# Altium integrated library Sampler_DIOT.IntLib: 102 symbols (part 1 of 2)
Pins are listed as number, name and electrical type; pins without a type are passive.

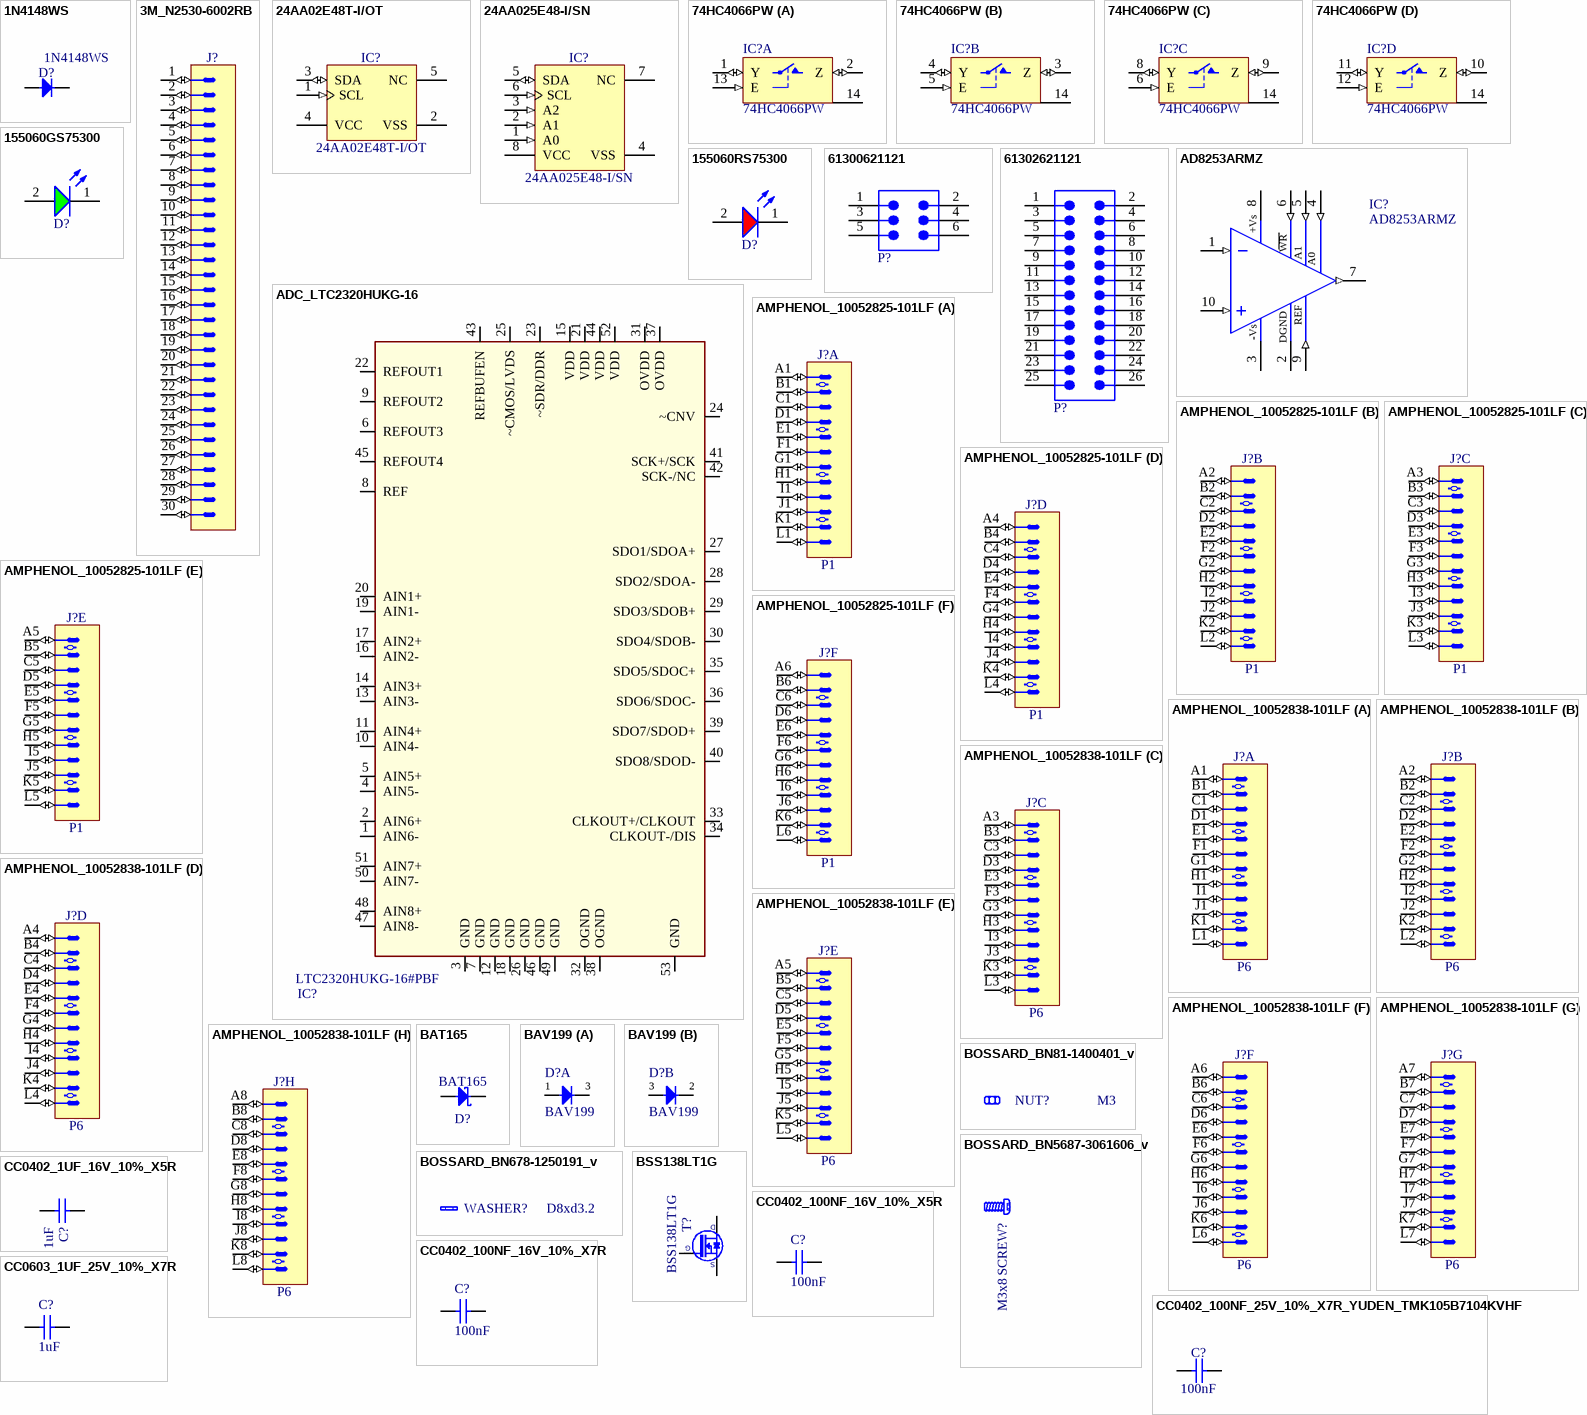
[diagram p0: symbols 1N4148WS to CC0603_1UF_25V_10%_X7R]

## 1N4148WS
designator D?
Diode; Part Description: Small Signal Diodes; Manufacturer: FAIRCHILD SEMICONDUCTOR; Voltage: 75V; Power: 150mA; PressFit: No; Bonding: No; Part Number: 1N4148WS; Component Kind: Standard; Component Type: Standard; Device: 1N4148WS; Footprint: SODFL2512X100N; PackageDescription: SODFL Diode; 1.70mm W X 1.25mm L X 1.00mm H body, IPC Medium Density; Manufacturer Part Number: 1N4148WS; Pin Count: 2; Case: SOD-323F; Mounted: Yes; Socket: No; SMD: Yes; Sense: No; ComponentHeight: 1mm; HelpURL: \\cern.ch\dfs\Applications\Altium\Datasheets\1N4148WS.pdf; Author: CERN DEM JLC; CreateDate: 12.05.2011; LatestRevisionDate: 12.05.2011
footprint SODFL2512X100N
pins: 1 C, 2 A

## 3M_N2530-6002RB
designator J?
Connector 30 Male; Part Number: 3M_N2530-6002RB; Part Description: 30 Contacts - Straight .100'' x .100'' Low Profile Four-Wall Header, 2500 Series; Manufacturer: 3M; Manufacturer Part Number: N2530-6002RB; PressFit: No; Component Kind: Standard; Component Type: Standard; Footprint: 3M_N2530-6002RB; Pin Count: 30; Family: Header 30; Mounted: Yes; Socket: No; SMD: No; Sense: No; Status: None; ComponentHeight: 10.03mm; HelpURL: \\cern.ch\dfs\Applications\Altium\Datasheets\3M_N2530-6002RB.pdf; Author: CERN DEM JLC; CreateDate: 11.02.2009; LatestRevisionDate: 11.08.2009
footprint 3M_N2530-6002RB
pins: 1 (io), 2 (io), 3 (io), 4 (io), 5 (io), 6 (io), 7 (io), 8 (io), 9 (io), 10 (io), 11 (io), 12 (io), 13 (io), 14 (io), 15 (io), 16 (io), 17 (io), 18 (io), 19 (io), 20 (io), 21 (io), 22 (io), 23 (io), 24 (io), 25 (io), 26 (io), 27 (io), 28 (io), 29 (io), 30 (io)
1 alternate drawing of the same symbol

## 24AA02E48T-I/OT
designator IC?
1.7V-5.5V, 2K I2C Serial EEPROM With EUI-48 Node Identity; Manufacturer: MICROCHIP TECHNOLOGY; PressFit: No; Bonding: No; Part Number: 24AA02E48T-I/OT; Component Kind: Standard; Component Type: Standard; Device: 24AA02E48T-I/OT; Footprint: SOT95P280X145-5N; PackageDescription: SOT, 0.95mm pitch; 5 pin, 1.60mm W X 2.90mm L X 1.45mm H body, IPC Medium Density; Part Description: 1.7V-5.5V, 2K I2C Serial EEPROM with EUI-48 Node Identity; Manufacturer Part Number: 24AA02E48T-I/OT; Pin Count: 5; Case: SOT23-5; Mounted: Yes; Socket: No; SMD: Yes; Sense: No; ComponentHeight: 1.45mm; HelpURL: \\cern.ch\dfs\Applications\Altium\Datasheets\24AA02E48T-I-OT.pdf; Author: CERN DEM MR; CreateDate: 31.03.2016; LatestRevisionDate: 31.03.2016
footprint SOT95P280X145-5N
pins: 1 SCL (in), 2 VSS (power), 3 SDA (io), 4 VCC (power), 5 NC

## 24AA025E48-I/SN
designator IC?
1.7V-5.5V, 2K I2C™ Serial EEPROMs with EUI-48™ Node Identity; Manufacturer: MICROCHIP TECHNOLOGY; PressFit: No; Bonding: No; Part Number: 24AA025E48-I/SN; Component Kind: Standard; Component Type: Standard; Device: 24AA025E48-I/SN; Footprint: SOIC127P600X175-8N; PackageDescription: SOIC 8, Pitch 1.27mm - Body 4x5mm, IPC Medium Density; Part Description: 1.7V-5.5V, 2K I2C™ Serial EEPROMs with EUI-48™ Node Identity; Manufacturer Part Number: 24AA025E48-I/SN; Pin Count: 8; Case: SOIC8; Mounted: Yes; Socket: No; SMD: Yes; Sense: No; ComponentHeight: 1.75mm; HelpURL: \\cern.ch\dfs\Applications\Altium\Datasheets\24AA025E48-I-SN.pdf; Author: CERN DEM MR; CreateDate: 19.07.2016; LatestRevisionDate: 19.07.2016
footprint SOIC127P600X175-8N
pins: 1 A0 (in), 2 A1 (in), 3 A2 (in), 4 VSS (power), 5 SDA (io), 6 SCL (in), 7 NC, 8 VCC (power)

## 74HC4066PW
designator IC?
Part Description: Quad Single-Pole Single-Throw Analog Switch; Manufacturer: NXP SEMICONDUCTORS; PressFit: No; Bonding: No; Table: Standard Logic; Part Number: 74HC4066PW; Component Kind: Standard; Component Type: Standard; Device: 74HC4066PW; Footprint: SOP65P640X110-14N; PackageDescription: SOP, 14-Leads, Body 4.4x5mm (max), Pitch 0.65mm, IPC Medium Density; Manufacturer Part Number: 74HC4066PW; Pin Count: 14; Case: TSSOP14; Mounted: Yes; Socket: No; SMD: Yes; ComponentHeight: 1.1mm; Author: CERN DEM JLC; HelpURL: \\cern.ch\dfs\Applications\Altium\Datasheets\74HC4066PW.pdf; CreateDate: 2014-11-19; LatestRevisionDate: 2014-11-19
footprint SOP65P640X110-14N
simulation model pk14 (Model Description)
pins on every part: 7 GND (power) hidden to GND, 14 VCC (power)
part A pins: 1 Y (io), 2 Z (io), 13 E (in)
part B pins: 3 Z (io), 4 Y (io), 5 E (in)
part C pins: 6 E (in), 8 Y (io), 9 Z (io)
part D pins: 10 Z (io), 11 Y (io), 12 E (in)

## 155060GS75300
designator D?, comment Green, 3.2V, 140°  (value not drawn)
WL-SMSW Mono-color Side View Waterclear, size 0603, Green, 3.2V, 140°; Manufacturer Part Number: 155060GS75300; Manufacturer: Wurth Elektronik; Case/Size Code: 0603; Chip Technology: InGaN; Dominant Wavelength: 525nm; Luminous Intensity: 560mcd; Peak Wavelength: 515nm; Category: Signal LEDs; Match Code: WL-SMSW; ComponentLink1Description: Website Link; ComponentLink1URL: https://www.we-online.com/redexpert/article/155060GS75300?ad; ComponentLink2Description: Datasheet Link; ComponentLink2URL: https://www.we-online.com/redexpert/spec/155060GS75300?ad; Mount: Surface Mount; Operating Temperature Max: 85°C; Operating Temperature Min: -40°C; Packaging: Tape and Reel; Length: 1.6mm; Width: 0.98mm; Height: 0.8mm; Emitting Color: Green; Forward Voltage: 3.2V; Viewing Angle: 140°
footprint WL-SMSW_0603_L1.6W0.98H0.8
simulation model 0603_155060GS75300
pins: 1 K, 2 A

## 155060RS75300
designator D?, comment Red, 2V, 140°  (value not drawn)
WL-SMSW Mono-color Side View Waterclear, size 0603, Red, 2V, 140°; Manufacturer Part Number: 155060RS75300; Manufacturer: Wurth Elektronik; Case/Size Code: 0603; Chip Technology: AlInGaP; Dominant Wavelength: 625nm; Luminous Intensity: 150mcd; Peak Wavelength: 630nm; Category: Signal LEDs; Match Code: WL-SMSW; ComponentLink1Description: Website Link; ComponentLink1URL: https://www.we-online.com/redexpert/article/155060RS75300?ad; ComponentLink2Description: Datasheet Link; ComponentLink2URL: https://www.we-online.com/redexpert/spec/155060RS75300?ad; Mount: Surface Mount; Operating Temperature Max: 85°C; Operating Temperature Min: -40°C; Packaging: Tape and Reel; Length: 1.6mm; Width: 0.98mm; Height: 0.8mm; Emitting Color: Red; Forward Voltage: 2V; Viewing Angle: 140°
footprint WL-SMSW_0603_L1.6W0.98H0.8
simulation model 0603_155060RS75300
pins: 1 K, 2 A

## 61300621121
designator P?  (value not drawn)
WR-PHD Pin Header, THT, Vertical, pitch 2.54mm, 2 Row, 6P; Manufacturer: Wurth Elektronik; Contact Resistance: 20mOhm; Rated Current: 3A; Working Voltage: 250V; Withstanding Voltage: 500V; Manufacturer Part Number: 61300621121; Category: Board-to-Board Connectors; Match Code: WR-PHD; ComponentLink1Description: Website Link; ComponentLink1URL: https://www.we-online.com/redexpert/article/61300621121?ad; ComponentLink2Description: Datasheet Link; ComponentLink2URL: https://www.we-online.com/redexpert/spec/61300621121?ad; Mount: Through Hole; Operating Temperature Max: 105°C; Operating Temperature Min: -40°C; Packaging: Bag; Gender: Pin Header; Number of Pins: 6; Number of Rows: 2; Orientation: Vertical; Pitch: 2.54mm
footprint 61300621121
pins: 1, 2, 3, 4, 5, 6

## 61302621121
designator P?  (value not drawn)
WR-PHD Pin Header, THT, Vertical, pitch 2.54mm, 2 Row, 26P; Manufacturer: Wurth Elektronik; Contact Resistance: 20mOhm; Rated Current: 3A; Working Voltage: 250V; Withstanding Voltage: 500V; Manufacturer Part Number: 61302621121; Category: Board-to-Board Connectors; Match Code: WR-PHD; ComponentLink1Description: Website Link; ComponentLink1URL: https://www.we-online.com/redexpert/article/61302621121?ad; ComponentLink2Description: Datasheet Link; ComponentLink2URL: https://www.we-online.com/redexpert/spec/61302621121?ad; Mount: Through Hole; Operating Temperature Max: 105°C; Operating Temperature Min: -40°C; Packaging: Bag; Gender: Pin Header; Number of Pins: 26; Number of Rows: 2; Orientation: Vertical; Pitch: 2.54mm
footprint 61302621121
pins: 1, 2, 3, 4, 5, 6, 7, 8, 9, 10, 11, 12, 13, 14, 15, 16, 17, 18, 19, 20, 21, 22, 23, 24, 25, 26

## AD8253ARMZ
designator IC?
10MHz, 20V/us, G= 1, 10, 100, 1000 iCMOS Programmable Gain Instrumentation Amplifier; Manufacturer: ANALOG DEVICES; PressFit: No; Bonding: No; Part Number: AD8253ARMZ; Component Kind: Standard; Component Type: Standard; Device: AD8253ARMZ; Footprint: SOP50P490X110-10N; PackageDescription: MSOP, 10-Leads, Body 3.1x3.1mm (max), Pitch 0.50mm, IPC Medium Density; Part Description: 10MHz, 20V/us, G= 1, 10, 100, 1000 iCMOS Programmable Gain Instrumentation Amplifier; Manufacturer Part Number: AD8253ARMZ; Pin Count: 8; Case: MSOP10; Mounted: Yes; Socket: No; SMD: Yes; Sense: No; ComponentHeight: 1.1mm; Author: CERN DEM JLC; HelpURL: \\cern.ch\dfs\Applications\Altium\Datasheets\AD8253ARMZ.pdf; CreateDate: 2013-10-02; LatestRevisionDate: 2013-10-02
footprint SOP50P490X110-10N
pins: 1 -IN (in), 2 DGND (power), 3 -VS (power), 4 A0 (in), 5 A1 (in), 6 ~{WR} (in), 7 OUT (out), 8 +VS (power), 9 REF (in), 10 +IN (in)
text: +Vs; WR; -Vs

## ADC_LTC2320HUKG-16
designator IC?, comment LTC2320HUKG-16#PBF
Octal, 16-Bit, 1.5Msps/Ch  Simultaneous Sampling ADC; Manufacturer: LINEAR TECHNOLOGY; PressFit: No; Bonding: No; Part Number: LTC2320HUKG-16#PBF; Component Kind: Standard; Component Type: Standard; Device: LTC2320HUKG-16#PBF; Footprint: QFN50P700X800X80_HS-53M; PackageDescription: QFN, 52-Leads, Body 7.00x8.00mm, Pitch 0.50mm, Thermal Pad 5.41x6.40mm, IPC Low Density; Part Description: Octal, 16-Bit, 1.5Msps/Ch  Simultaneous Sampling ADC; Manufacturer Part Number: LTC2320HUKG-16#PBF; Pin Count: 48; Case: QFP48; Mounted: Yes; Socket: No; SMD: Yes; Sense: No; ComponentHeight: 0.8; Author: GK; HelpURL: \\cern.ch\dfs\Applications\Altium\Datasheets\LTC2335CLX-18#PBF.pdf; CreateDate: 10.01.2017; LatestRevisionDate: 10.01.2017
footprint QFN50P700X800X80_HS-53M (QFN, 52-Leads, Body 7.00x8.00mm, Pitch 0.50mm, Thermal Pad 5.41x6.40mm, IPC Low Density)
pins: 1 AIN6-, 2 AIN6+, 3 GND, 4 AIN5-, 5 AIN5+, 6 REFOUT3, 7 GND, 8 REF, 9 REFOUT2, 10 AIN4-, 11 AIN4+, 12 GND, 13 AIN3-, 14 AIN3+, 15 VDD, 16 AIN2-, 17 AIN2+, 18 GND, 19 AIN1-, 20 AIN1+, 21 VDD, 22 REFOUT1, 23 ~SDR/DDR, 24 ~CNV, 25 ~CMOS/LVDS, 26 GND, 27 SDO1/SDOA+, 28 SDO2/SDOA-, 29 SDO3/SDOB+, 30 SDO4/SDOB-, 31 OVDD, 32 OGND, 33 CLKOUT+/CLKOUT, 34 CLKOUT-/DIS, 35 SDO5/SDOC+, 36 SDO6/SDOC-, 37 OVDD, 38 OGND, 39 SDO7/SDOD+, 40 SDO8/SDOD-, 41 SCK+/SCK, 42 SCK-/NC, 43 REFBUFEN, 44 VDD, 45 REFOUT4, 46 GND, 47 AIN8-, 48 AIN8+, 49 GND, 50 AIN7-, 51 AIN7+, 52 VDD, 53 GND
2 alternate drawings of the same symbol

## AMPHENOL_10052825-101LF
designator J?, comment P1
72 Contacts Header, 6 Columns, 4 Pairs per Column; Part Number: AMPHENOL_10052825-101LF; Part Description: 72 Contacts, 2mm Pitch, 6 Columns, 4 Pairs per Column, 4 Walls, Right Angle Header; Manufacturer: AMPHENOL; Manufacturer Part Number: 10052825-101LF; Component Kind: Standard; Component Type: Standard; Footprint: AMPHENOL_10052825-101LF; Pin Count: 72; Family: AirMax VS; Mounted: Yes; Socket: No; SMD: No; PressFit: Yes; Sense: No; Status: None; ComponentHeight: 15.35mm; HelpURL: \\cern.ch\dfs\Applications\Altium\Datasheets\AMPHENOL_10052825-101LF.pdf; ComponentLink1URL: \\cern.ch\dfs\Applications\Altium\Datasheets\AMPHENOL_10052825-101LF_Application.pdf; ComponentLink1Description: Application; Author: CERN DEM MR; CreateDate: 19/02/2018; LatestRevisionDate: 19/02/2018; Classname: Overlapping
footprint AMPHENOL_10052825-101LF
part A pins: A1 (io), B1 (io), C1 (io), D1 (io), E1 (io), F1 (io), G1 (io), H1 (io), I1 (io), J1 (io), K1 (io), L1 (io)
part B pins: A2 (io), B2 (io), C2 (io), D2 (io), E2 (io), F2 (io), G2 (io), H2 (io), I2 (io), J2 (io), K2 (io), L2 (io)
part C pins: A3 (io), B3 (io), C3 (io), D3 (io), E3 (io), F3 (io), G3 (io), H3 (io), I3 (io), J3 (io), K3 (io), L3 (io)
part D pins: A4 (io), B4 (io), C4 (io), D4 (io), E4 (io), F4 (io), G4 (io), H4 (io), I4 (io), J4 (io), K4 (io), L4 (io)
part E pins: A5 (io), B5 (io), C5 (io), D5 (io), E5 (io), F5 (io), G5 (io), H5 (io), I5 (io), J5 (io), K5 (io), L5 (io)
part F pins: A6 (io), B6 (io), C6 (io), D6 (io), E6 (io), F6 (io), G6 (io), H6 (io), I6 (io), J6 (io), K6 (io), L6 (io)
1 alternate drawing of the same symbol

## AMPHENOL_10052838-101LF
designator J?, comment P6
96 Contacts Header, 8 Columns, 4 Pairs per Column; Part Number: AMPHENOL_10052838-101LF; Part Description: 96 Contacts, 2mm Pitch, 8 Columns, 4 Pairs per Column, 4 Walls, Right Angle Header; Manufacturer: AMPHENOL; Manufacturer Part Number: 10052838-101LF; Component Kind: Standard; Component Type: Standard; Footprint: AMPHENOL_10052838-101LF; Pin Count: 96; Family: AirMax VS; Mounted: Yes; Socket: No; SMD: No; PressFit: Yes; Sense: No; Status: None; ComponentHeight: 15.35mm; HelpURL: \\cern.ch\dfs\Applications\Altium\Datasheets\AMPHENOL_10052838-101LF.pdf; ComponentLink1URL: \\cern.ch\dfs\Applications\Altium\Datasheets\AMPHENOL_10052838-101LF_Application.pdf; ComponentLink1Description: Application; Author: CERN DEM MR; CreateDate: 19.02.2018; LatestRevisionDate: 19.02.2018
footprint AMPHENOL_10052838-101LF
simulation model Model Name (Model Description)
simulation model Model Name (Model Description)
part A pins: A1 (io), B1 (io), C1 (io), D1 (io), E1 (io), F1 (io), G1 (io), H1 (io), I1 (io), J1 (io), K1 (io), L1 (io)
part B pins: A2 (io), B2 (io), C2 (io), D2 (io), E2 (io), F2 (io), G2 (io), H2 (io), I2 (io), J2 (io), K2 (io), L2 (io)
part C pins: A3 (io), B3 (io), C3 (io), D3 (io), E3 (io), F3 (io), G3 (io), H3 (io), I3 (io), J3 (io), K3 (io), L3 (io)
part D pins: A4 (io), B4 (io), C4 (io), D4 (io), E4 (io), F4 (io), G4 (io), H4 (io), I4 (io), J4 (io), K4 (io), L4 (io)
part E pins: A5 (io), B5 (io), C5 (io), D5 (io), E5 (io), F5 (io), G5 (io), H5 (io), I5 (io), J5 (io), K5 (io), L5 (io)
part F pins: A6 (io), B6 (io), C6 (io), D6 (io), E6 (io), F6 (io), G6 (io), H6 (io), I6 (io), J6 (io), K6 (io), L6 (io)
part G pins: A7 (io), B7 (io), C7 (io), D7 (io), E7 (io), F7 (io), G7 (io), H7 (io), I7 (io), J7 (io), K7 (io), L7 (io)
part H pins: A8 (io), B8 (io), C8 (io), D8 (io), E8 (io), F8 (io), G8 (io), H8 (io), I8 (io), J8 (io), K8 (io), L8 (io)
1 alternate drawing of the same symbol

## BAT165
designator D?
Schottky Diode; Manufacturer: INFINEON; Part Description: Medium Power AF Schottky Diode; Voltage: 40V; Power: 750mA; PressFit: No; Bonding: No; Footprint: SOD2512X110N; Manufacturer Part Number: BAT165; PackageDescription: Small Outline Diode (SOD-323), 1.70mm W X 1.25mm L X 1.10mm H body,  IPC Medium Density; Part Number: BAT165; Component Kind: Standard; Component Type: Standard; Device: BAT165; Pin Count: 2; Case: SOD323; Mounted: Yes; Socket: No; SMD: Yes; Sense: No; ComponentHeight: 1.1mm; HelpURL: \\cern.ch\dfs\Applications\Altium\Datasheets\BAT165.pdf; Author: CERN DEM JLC; CreateDate: 12.11.2014; LatestRevisionDate: 12.11.2014
footprint SOD2512X110N
pins: 1 C, 2 A

## BAV199
designator D?
Serial Diode; Part Description: Low-Leakage Double Diode; Manufacturer: NXP SEMICONDUCTORS; Voltage: 75V; Power: 250mW; PressFit: No; Bonding: No; Part Number: BAV199; Component Kind: Standard; Component Type: Standard; Device: BAV199; Footprint: SOT95P240X110-3N; PackageDescription: SOT23 3-Leads, Pitch 0.95mm - Body 1.4x3mm, IPC Medium Density; Manufacturer Part Number: BAV199; Pin Count: 3; Case: SOT23-3; Mounted: Yes; Socket: No; SMD: Yes; Sense: No; ComponentHeight: 1.1mm; HelpURL: \\cern.ch\dfs\Applications\Altium\Datasheets\BAV199.pdf; Author: CERN DEM JMW; CreateDate: 2008-11-21; LatestRevisionDate: 2008-11-21
footprint SOT95P240X110-3N
part A pins: 1 A, 3 COMAC
part B pins: 2 C, 3 COMAC

## BOSSARD_BN81-1400401_v
designator NUT?, comment M3
Nut; Part Number: BOSSARD_BN81-1400401_v; Part Description: M3 Hexagon Nut ~0,8d, DIN 555, Polyamide PA 6.6; Manufacturer: BOSSARD; Manufacturer Part Number: BN81 Art.1400401; PressFit: No; Component Kind: Standard; Component Type: Mechanical; Footprint: BOSSARD_BN81-1400401_v; Pin Count: 0; PackageDescription: M3 Hexagon Nut ~0,8d, DIN 555, Polyamide PA 6.6; Mounted: Yes; Socket: No; SMD: No; Sense: No; Status: None; Value: M3; ComponentHeight: 2.4mm; HelpURL: \\cern.ch\dfs\Applications\Altium\Datasheets\BOSSARD_BN81-1400401.pdf; Author: CERN DEM JMW; CreateDate: 18.06.2015; LatestRevisionDate: 18.06.2015
footprint BOSSARD_BN81-1400401_v

## BOSSARD_BN678-1250191_v
designator WASHER?, comment D8xd3.2
Washer; Part Number: BOSSARD_BN678-1250191_v; Part Description: Waved Spring Washer for M3 Screw, Stainless Steel A2 / 1.4310; Manufacturer: BOSSARD; Manufacturer Part Number: BN678 Art.1250191; PressFit: No; Status Comment: Replaced by BOSSARD_BN83728-8243964_v; Component Kind: Standard; Component Type: Mechanical; Footprint: BOSSARD_BN678-1250191_v; Pin Count: 0; PackageDescription: Waved Spring Washer for M3 Screw, Stainless Steel A2 / 1.4310; Mounted: Yes; Socket: No; SMD: No; Sense: No; Status: Obsolete; Value: D8xd3.2; ComponentHeight: 0.5mm; HelpURL: \\cern.ch\dfs\Applications\Altium\Datasheets\BOSSARD_BN678-1250191.pdf; Author: CERN DEM JLC; CreateDate: 15.01.2013; LatestRevisionDate: 11.12.2013
footprint BOSSARD_BN678-1250191_v

## BOSSARD_BN5687-3061606_v
designator SCREW?, comment M3x8
Screw; Part Number: BOSSARD_BN5687-3061606_v; Part Description: M3 L=8mm Hexalobular Socket Pan Head Screw, Fully Threaded, Stainless Steel A2; Manufacturer: BOSSARD; Manufacturer Part Number: BN5687 Art.3061606; PressFit: No; Component Kind: Standard; Component Type: Mechanical; Footprint: BOSSARD_BN5687-3061606_v; Pin Count: 0; PackageDescription: M3 L=8mm Hexalobular Socket Pan Head Screw, Fully Threaded - Stainless Steel A2; Mounted: Yes; Socket: No; SMD: No; Sense: No; Status: None; Value: M3x8; ComponentHeight: 2.4mm; HelpURL: \\cern.ch\dfs\Applications\Altium\Datasheets\BOSSARD_BN5687-3061606.pdf; Author: CERN DEM JLC; CreateDate: 07.02.2013; LatestRevisionDate: 07.02.2013
footprint BOSSARD_BN5687-3061606_v

## BSS138LT1G
designator T?
N-CHANNEL MOSFET WITH DIODE; Part Description: 50V 200mA N-Channel Enhancement Mode Field-Effect Transistor; Manufacturer: ON SEMICONDUCTOR; PressFit: No; Bonding: No; Part Number: BSS138LT1G; Component Kind: Standard; Component Type: Standard; Device: BSS138LT1G; Footprint: SOT95P240X110-3N; PackageDescription: SOT23 3-Leads, Pitch 0.95mm - Body 1.4x3mm, IPC Medium Density; Manufacturer Part Number: BSS138LT1G; Pin Count: 3; Case: SOT23-3; Mounted: Yes; Socket: No; SMD: Yes; Sense: No; ComponentHeight: 1.11mm; HelpURL: \\cern.ch\dfs\Applications\Altium\Datasheets\BSS138LT1G.pdf; Author: CERN DEM JLC; CreateDate: 23.03.2009; LatestRevisionDate: 23.03.2009
footprint SOT95P240X110-3N
pins: 1 G, 2 S, 3 D

## CC0402_1UF_16V_10%_X5R
designator C?, comment 1uF
Non-polarised capacitor; Part Number: CC0402_1UF_16V_10%_X5R; Part Description: SMD Multilayer Chip Ceramic Capacitor; Manufacturer: GENERIC; Manufacturer1 Part Number: C1005X5R1C105KT; Voltage: 16V; TC: X5R; Tolerance: ±10%; Component Kind: Standard; Component Type: Standard; Footprint: CAPC1005X55N; Pin Count: 2; Value: 1uF; Status: Preferred; Manufacturer Part Number: CC0402_1UF_16V_10%_X5R; Case: 0402; Mounted: Yes; Socket: No; SMD: Yes; Sense: No; Manufacturer1 Example: TDK; Manufacturer1 ComponentHeight: 0.55mm; HelpURL: \\cern.ch\dfs\Applications\Altium\Datasheets\CC0402_X5R_TDK_C.pdf; Author: CERN DEM JLC; CreateDate: 25.10.2012; LatestRevisionDate: 25.10.2012
footprint CAPC1005X55N
pins: 1, 2

## CC0402_100NF_16V_10%_X5R
designator C?, comment 100nF
Non-polarised capacitor; Part Number: CC0402_100NF_16V_10%_X5R; Part Description: SMD Multilayer Chip Ceramic Capacitor; Manufacturer: GENERIC; Manufacturer1 Part Number: GRM155R61C104KA88D; Voltage: 16V; TC: X5R; Tolerance: ±10%; Component Kind: Standard; Component Type: Standard; Footprint: CAPC1005X55N; Pin Count: 2; Value: 100nF; Status: None; Manufacturer Part Number: CC0402_100NF_16V_10%_X5R; Case: 0402; Mounted: Yes; Socket: No; SMD: Yes; Sense: No; Manufacturer1 Example: MURATA; Manufacturer1 ComponentHeight: 0.55mm; HelpURL: \\cern.ch\dfs\Applications\Altium\Datasheets\CC0402_X5R_MURATA_GRM.pdf; Author: CERN DEM JLC; CreateDate: 10.12.2013; LatestRevisionDate: 10.12.2013
footprint CAPC1005X55N
pins: 1, 2

## CC0402_100NF_16V_10%_X7R
designator C?, comment 100nF
Non-polarised capacitor; Part Number: CC0402_100NF_16V_10%_X7R; Part Description: SMD Multilayer Chip Ceramic Capacitor; Manufacturer: GENERIC; Manufacturer1 Part Number: GRM155R71C104KA88D; Voltage: 16V; TC: X7R; Tolerance: ±10%; Component Kind: Standard; Component Type: Standard; Footprint: CAPC1005X55N; Pin Count: 2; Value: 100nF; Status: Not Recommended; Manufacturer Part Number: CC0402_100NF_16V_10%_X7R; Case: 0402; Mounted: Yes; Socket: No; SMD: Yes; Sense: No; Manufacturer1 Example: MURATA; Manufacturer1 ComponentHeight: 0.55mm; HelpURL: \\cern.ch\dfs\Applications\Altium\Datasheets\CC0402_X7R_MURATA_GRM.pdf; Author: CERN DEM JLC; CreateDate: 2013-12-05; LatestRevisionDate: 2007-12-03
footprint CAPC1005X55N
pins: 1, 2

## CC0402_100NF_25V_10%_X7R_YUDEN_TMK105B7104KVHF
designator C?, comment 100nF
Non-polarised capacitor; Part Number: CC0402_100NF_25V_10%_X7R_YUDEN_TMK105B7104KVHF; Part Description: SMD Multilayer Chip Ceramic Capacitor (High Dielectric Type) for Automotive / Industrial Applications; Manufacturer: TAIYO YUDEN; Manufacturer Part Number: TMK105B7104KVHF; Voltage: 25V; TC: X7R; Tolerance: ±10%; Component Kind: Standard; Component Type: Standard; Footprint: CAPC1005X55N; Pin Count: 2; Value: 100nF; Status: Not Recommended; Case: 0402; Mounted: Yes; Socket: No; SMD: Yes; Sense: No; HelpURL: \\cern.ch\dfs\Applications\Altium\Datasheets\CC0402_TAIYO-YUDEN_TMK105B7104KVHF.pdf; Author: CERN DEM JLC; CreateDate: 10-May-17; LatestRevisionDate: 10-May-17; ComponentHeight: 0.55mm
footprint CAPC1005X55N
pins: 1, 2

## CC0603_1UF_25V_10%_X7R
designator C?, comment 1uF
Non-polarised capacitor; Part Number: CC0603_1UF_25V_10%_X7R; Part Description: SMD Multilayer Chip Ceramic Capacitor; Manufacturer: GENERIC; Manufacturer1 Part Number: GRM188R71E105KA12D; Voltage: 25V; TC: X7R; Tolerance: ±10%; Component Kind: Standard; Component Type: Standard; Footprint: CAPC1608X87N; Pin Count: 2; Value: 1uF; Status: None; Manufacturer Part Number: CC0603_1UF_25V_10%_X7R; Case: 0603; Mounted: Yes; Socket: No; SMD: Yes; Sense: No; Manufacturer1 Example: MURATA; Manufacturer1 ComponentHeight: 0.9mm; HelpURL: \\cern.ch\dfs\Applications\Altium\Datasheets\CC0603_X7R_MURATA.pdf; Author: CERN DEM JLC; CreateDate: 18.01.2011; LatestRevisionDate: 18.01.2011
footprint CAPC1608X87N
pins: 1, 2

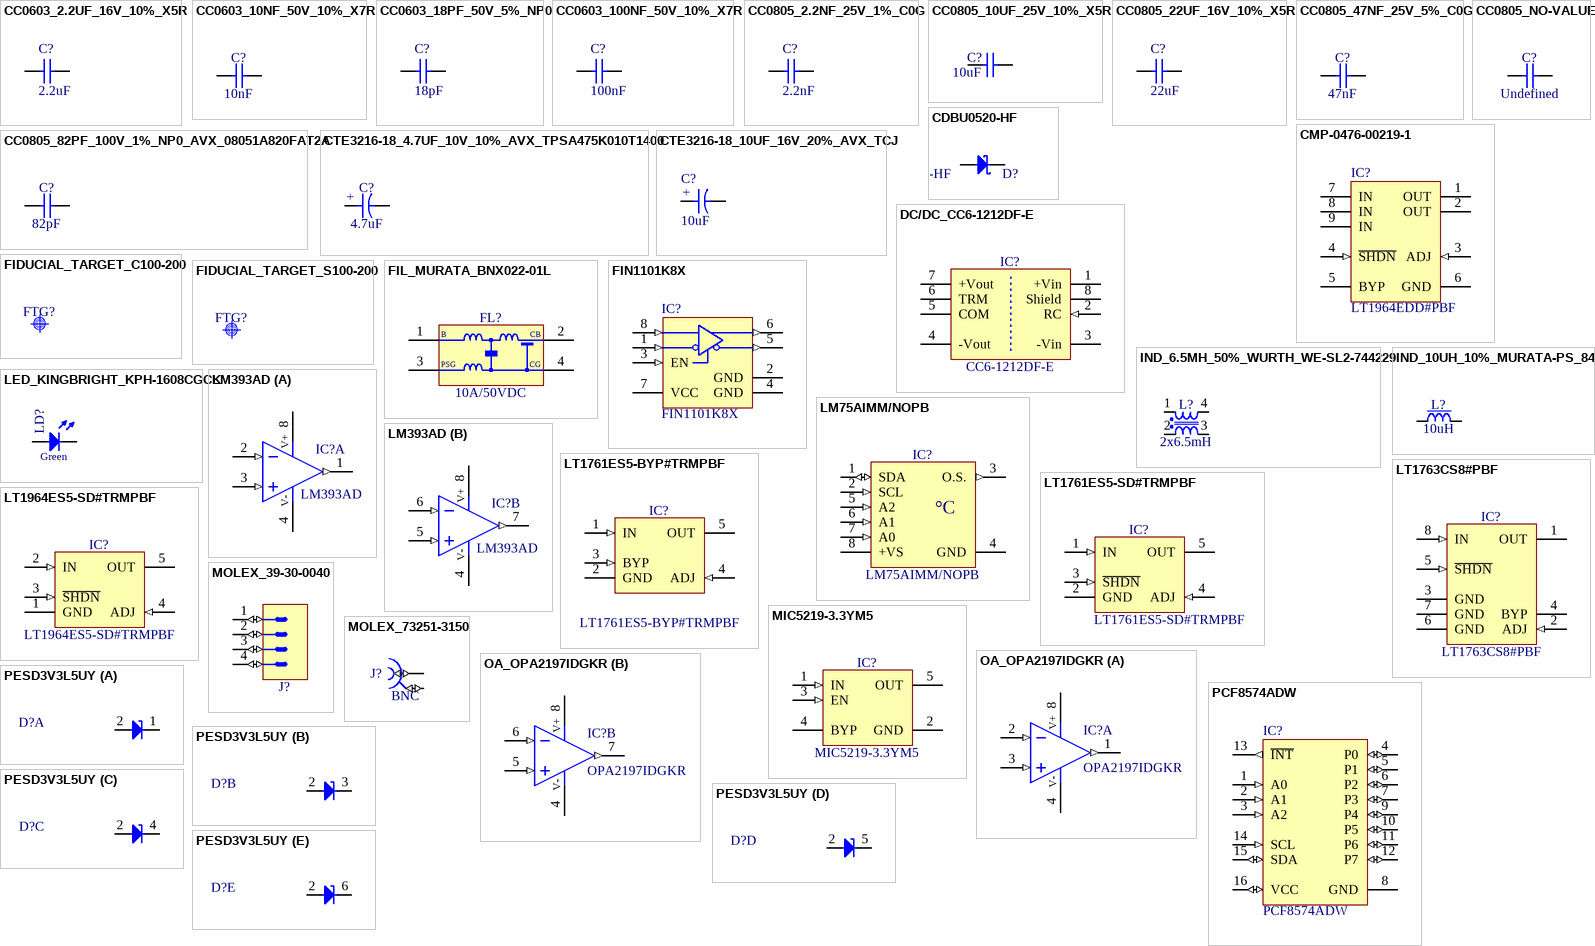
[diagram p1: symbols CC0603_2.2UF_16V_10%_X5R to PESD3V3L5UY]

## CC0603_2.2UF_16V_10%_X5R
designator C?, comment 2.2uF
Non-polarised capacitor; Part Number: CC0603_2.2UF_16V_10%_X5R; Part Description: SMD Multilayer Chip Ceramic Capacitor; Manufacturer: GENERIC; Manufacturer1 Part Number: CC0603KRX5R7BB225; Voltage: 16V; TC: X5R; Tolerance: ±10%; Component Kind: Standard; Component Type: Standard; Footprint: CAPC1608X87N; Pin Count: 2; Value: 2.2uF; Status: Preferred; Manufacturer Part Number: CC0603_2.2UF_16V_10%_X5R; Case: 0603; Mounted: Yes; Socket: No; SMD: Yes; Sense: No; Manufacturer1 Example: YAGEO; Manufacturer1 ComponentHeight: 0.9mm; HelpURL: \\cern.ch\dfs\Applications\Altium\Datasheets\CC0805_X5R_PHYCOMP_HC.pdf; Author: CERN DEM JLC; CreateDate: 28.04.2011; LatestRevisionDate: 28.04.2011
footprint CAPC1608X87N
pins: 1, 2

## CC0603_10NF_50V_10%_X7R
designator C?, comment 10nF
Non-polarised capacitor; Part Number: CC0603_10NF_50V_10%_X7R; Part Description: SMD Multilayer Chip Ceramic Capacitor; Manufacturer: GENERIC; Manufacturer1 Part Number: 223858615636; Voltage: 50V; TC: X7R; Tolerance: ±10%; Component Kind: Standard; Component Type: Standard; Footprint: CAPC1608X87N; Pin Count: 2; Value: 10nF; Status: Preferred; Manufacturer Part Number: CC0603_10NF_50V_10%_X7R; Case: 0603; Mounted: Yes; Socket: No; SMD: Yes; Sense: No; Manufacturer1 Example: PHYCOMP; Manufacturer1 ComponentHeight: 0.87mm; HelpURL: \\cern.ch\dfs\Applications\Altium\Datasheets\CC0603_X7R_PHYCOMP.pdf; Author: CERN DEM JLC; CreateDate: 03.12.2007; LatestRevisionDate: 03.12.2007
footprint CAPC1608X87N
pins: 1, 2

## CC0603_18PF_50V_5%_NP0
designator C?, comment 18pF
Non-polarised capacitor; Part Number: CC0603_18PF_50V_5%_NP0; Part Description: SMD Multilayer Chip Ceramic Capacitor; Manufacturer: GENERIC; Manufacturer1 Part Number: 223886715189; Voltage: 50V; TC: C0G/NP0; Tolerance: ±5%; Component Kind: Standard; Component Type: Standard; Footprint: CAPC1608X87N; Pin Count: 2; Value: 18pF; Status: Preferred; Manufacturer Part Number: CC0603_18PF_50V_5%_NP0; Case: 0603; Mounted: Yes; Socket: No; SMD: Yes; Sense: No; Manufacturer1 Example: PHYCOMP; Manufacturer1 ComponentHeight: 0.87mm; HelpURL: \\cern.ch\dfs\Applications\Altium\Datasheets\CC0603_NP0_PHYCOMP.pdf; Author: CERN DEM JLC; CreateDate: 03.12.2007; LatestRevisionDate: 03.12.2007
footprint CAPC1608X87N
pins: 1, 2

## CC0603_100NF_50V_10%_X7R
designator C?, comment 100nF
Non-polarised capacitor; Part Number: CC0603_100NF_50V_10%_X7R; Part Description: SMD Multilayer Chip Ceramic Capacitor; Manufacturer: GENERIC; Manufacturer1 Part Number: 223858615649; Voltage: 50V; TC: X7R; Tolerance: ±10%; Component Kind: Standard; Component Type: Standard; Footprint: CAPC1608X87N; Pin Count: 2; Value: 100nF; Status: Preferred; Manufacturer Part Number: CC0603_100NF_50V_10%_X7R; Case: 0603; Mounted: Yes; Socket: No; SMD: Yes; Sense: No; Manufacturer1 Example: PHYCOMP; Manufacturer1 ComponentHeight: 0.87mm; HelpURL: \\cern.ch\dfs\Applications\Altium\Datasheets\CC0603_X7R_PHYCOMP.pdf; Author: CERN DEM JLC; CreateDate: 03.12.2007; LatestRevisionDate: 03.12.2007
footprint CAPC1608X87N
pins: 1, 2

## CC0805_2.2NF_25V_1%_C0G
designator C?, comment 2.2nF
Non-polarised capacitor; Part Number: CC0805_2.2NF_25V_1%_C0G; Part Description: SMD Multilayer Chip Ceramic Capacitor; Manufacturer: GENERIC; Manufacturer1 Part Number: C0805C222F3GACTU; Voltage: 25V; TC: C0G/NP0; Tolerance: ±1%; Component Kind: Standard; Component Type: Standard; Footprint: CAPC2013X100N; Pin Count: 2; Value: 2.2nF; Status: None; Manufacturer Part Number: CC0805_2.2NF_25V_1%_C0G; Case: 0805; Mounted: Yes; Socket: No; SMD: Yes; Sense: No; Manufacturer1 Example: KEMET; Manufacturer1 ComponentHeight: 0.88mm; HelpURL: \\cern.ch\dfs\Applications\Altium\Datasheets\CC0805_C0G_KEMET_(Commercial Grade).pdf; Author: CERN DEM JLC; CreateDate: 11.03.2015; LatestRevisionDate: 11.03.2015
footprint CAPC2013X100N
pins: 1, 2

## CC0805_10UF_25V_10%_X5R
designator C?, comment 10uF
Non-polarised capacitor; Part Number: CC0805_10UF_25V_10%_X5R; Part Description: SMD Multilayer Chip Ceramic Capacitor; Manufacturer: GENERIC; Manufacturer1 Part Number: GRM219R61E106KA12D; Voltage: 25V; TC: X5R; Tolerance: ±10%; Component Kind: Standard; Component Type: Standard; Footprint: CAPC2012X95N; Pin Count: 2; Value: 10uF; Status: Preferred; Manufacturer Part Number: CC0805_10UF_25V_10%_X5R; Case: 0805; Mounted: Yes; Socket: No; SMD: Yes; Sense: No; Manufacturer1 Example: MURATA; Manufacturer1 ComponentHeight: 0.95mm; HelpURL: \\cern.ch\dfs\Applications\Altium\Datasheets\CC0805_X5R_MURATA_GRM.pdf; Author: CERN DEM JLC; CreateDate: 25.10.2012; LatestRevisionDate: 06.09.2016
footprint CAPC2012X95N
pins: 1, 2

## CC0805_22UF_16V_10%_X5R
designator C?, comment 22uF
Non-polarised capacitor; Part Number: CC0805_22UF_16V_10%_X5R; Part Description: SMD Multilayer Chip Ceramic Capacitor; Manufacturer: GENERIC; Manufacturer1 Part Number: C2012X5R1C226KT; Voltage: 16V; TC: X5R; Tolerance: ±10%; Component Kind: Standard; Component Type: Standard; Footprint: CAPC2012X135N; Pin Count: 2; Value: 22uF; Status: Preferred; Manufacturer Part Number: CC0805_22UF_16V_10%_X5R; Case: 0805; Mounted: Yes; Socket: No; SMD: Yes; Sense: No; Manufacturer1 Example: TDK; Manufacturer1 ComponentHeight: 1.35mm; HelpURL: \\cern.ch\dfs\Applications\Altium\Datasheets\CC0805_X5R_TDK_C.pdf; Author: CERN DEM JLC; CreateDate: 25.10.2012; LatestRevisionDate: 25.10.2012
footprint CAPC2012X135N
pins: 1, 2

## CC0805_47NF_25V_5%_C0G
designator C?, comment 47nF
Non-polarised capacitor; Part Number: CC0805_47NF_25V_5%_C0G; Part Description: SMD Multilayer Chip Ceramic Capacitor; Manufacturer: GENERIC; Manufacturer1 Part Number: C0805C473J3GACTU; Voltage: 25V; TC: C0G/NP0; Tolerance: ±5%; Component Kind: Standard; Component Type: Standard; Footprint: CAPC2012X135N; Pin Count: 2; Value: 47nF; Status: None; Manufacturer Part Number: CC0805_47NF_25V_5%_C0G; Case: 0805; Mounted: Yes; Socket: No; SMD: Yes; Sense: No; Manufacturer1 Example: KEMET; Manufacturer1 ComponentHeight: 1.4mm; HelpURL: \\cern.ch\dfs\Applications\Altium\Datasheets\CC0805_C0G_KEMET_(Commercial Grade).pdf; Author: CERN DEM JLC; CreateDate: 18.01.2011; LatestRevisionDate: 18.01.2011
footprint CAPC2012X135N
pins: 1, 2

## CC0805_82PF_100V_1%_NP0_AVX_08051A820FAT2A
designator C?, comment 82pF
Non-polarised capacitor; Part Number: CC0805_82PF_100V_1%_NP0_AVX_08051A820FAT2A; Part Description: SMD Multilayer Chip Ceramic Capacitor; Manufacturer: AVX; Manufacturer Part Number: 08051A820FAT2A; Voltage: 100V; TC: NP0; Tolerance: ±1%; Component Kind: Standard; Component Type: Standard; Footprint: CAPC2012X90N; Pin Count: 2; Value: 82pF; Status: Not Recommended; Case: 0805; Mounted: Yes; Socket: No; SMD: Yes; Sense: No; ComponentHeight: 0.9mm; HelpURL: \\cern.ch\dfs\Applications\Altium\Datasheets\CC0805_C0G_AVX.pdf; Author: CERN DEM WB; CreateDate: 26.07.2016; LatestRevisionDate: 26.07.2016
footprint CAPC2012X90N
pins: 1, 2

## CC0805_NO-VALUE
designator C?, comment Undefined
Non-polarised capacitor; Part Number: CC0805_NO-VALUE; Part Description: Reserved Footprint For 0805(2012) Chip Ceramic Capacitor; Mounted: No; Component Kind: Standard; Component Type: Standard; Footprint: CAPC2012X135N; Pin Count: 2; Value: Undefined; Status: None; Manufacturer: Undefined; Manufacturer Part Number: CC0805_NO-VALUE; Case: 0805; Socket: No; SMD: Yes; Sense: No; Manufacturer1 ComponentHeight: 1.35mm; HelpURL: Undefined; Author: CERN DEM JLC; CreateDate: 10.12.2008; LatestRevisionDate: 11.09.2013
footprint CAPC2012X135N
pins: 1, 2

## CDBU0520-HF
designator D?
Schottky Diode; Part Description: 20V Surface mount Schottky Barrier Diode; Manufacturer: COMCHIP; Voltage: 20V; Power: 500mA; PressFit: No; Bonding: No; Part Number: CDBU0520-HF; Component Kind: Standard; Component Type: Standard; Device: CDBU0520-HF; Footprint: SOD-523F; PackageDescription: Small Outline Diode Flat Lead (SOD-523F), Body; 1.80mm L X 1mm W X 0.85mm H; Manufacturer Part Number: CDBU0520-HF; Pin Count: 2; Case: SOD-523F; Mounted: Yes; Socket: No; SMD: Yes; Sense: No; ComponentHeight: 1mm; HelpURL: \\cern.ch\dfs\Applications\Altium\Datasheets\CDBU0520-HF.pdf; Author: CERN DEM HF; CreateDate: 13.10.2023; LatestRevisionDate: 13.10.2023
footprint SOD-523F
pins: 1 C, 2 A

## CMP-0476-00219-1
designator IC?, comment LT1964EDD#PBF
200 mA, Low Noise, Low Dropout Negative Micropower Regulator, -1.9 to -20 V Vin, Adjustable Vout, 8-pin SON (DD-8), -40 to 125 degC, Pb-Free; Manufacturer: Linear Technology; Output Voltage: Adj; Isupply(mA): 0.03; Dropout Voltage(V): 0.34; Vout Max(V): -1.22; Shutdown Current(uA): 3; Noise(uV): 30; Discrete Pass Element: no; Iout(mA): 200; Number of Outputs: 1; PSRR(dB): 54; ComponentLink3Description: Package Specification; PackageDescription: 8-Pin Plastic DFN, Body 3 x 3 mm, Pitch 0.5 mm; RoHS: TRUE; ComponentLink1Description: Manufacturer URL; Vin Max(V): -1.9; Vout Min(V): -20; Code_JEDEC: MO-229; ComponentLink1URL: http://www.linear.com/; PartNumber: LT1964EDD#PBF; PackageVersion: Jun-10; DatasheetVersion: Rev. B; PackageReference: DD-8; ComponentLink2Description: Datasheet; Vin Min(V): -20; ComponentLink3URL: http://cds.linear.com/docs/en/packaging/DFN_8_05-08-1698.pdf; ComponentLink2URL: http://cds.linear.com/docs/en/datasheet/1964fb.pdf; Mounting Technology: Surface Mount
footprint LT-DD-8_V (SON, 8-Leads, Body 3x3mm, Pitch 0.5mm, Thermal Pad 1.65x2.38 mm, IPC Low Density)
pins: 1 OUT (power) "The Output Supplies Power to the Load. A minimum output capacitor of 1uF is required to prevent oscillations. Larger output capacitors will be required for applications with large transient loads to limit peak voltage (See Datasheet)", 2 OUT (power) "The Output Supplies Power to the Load. A minimum output capacitor of 1uF is required to prevent oscillations. Larger output capacitors will be required for applications with large transient loads to limit peak voltage (See Datasheet)", 3 ADJ (in) "For the Adjustable LT1964,  this is the Input to the Error Ampli?er. The ADJ pin has a bias current of 30nA that ?ows out of the pin. The ADJ pin voltage is -1.22V referenced to ground, and the output voltage range is(See Datasheet)", 4 ~{SHDN} (in) "The S\H\D\N\ Pin is used to put the LT1964 into a Low Power Shutdown State. The S\H\D\N\ pin is referenced to the GND pin for regulator control, allowing the LT1964 to  be driven by either positive or negative logic. The (See Datasheet)", 5 BYP "The BYP Pin is used to Bypass the Reference of  the LT1964 to Achieve Low Noise Performance from the  Regulator. A small capacitor from the output to this pin  will bypass the reference to lower the output voltage noise.  A (See Datasheet)", 6 GND (power) "Ground.", 7 IN (power) "Power is Supplied to the Device Through the Input Pin. A bypass capacitor is required on this pin if the device  is more than six inches away from the main input ?lter  capacitor. In general, the output impedance of (See Datasheet)", 8 IN (power) "Power is Supplied to the Device Through the Input Pin. A bypass capacitor is required on this pin if the device  is more than six inches away from the main input ?lter  capacitor. In general, the output impedance of (See Datasheet)", 9 IN (power) "IN. Connect to IN  (Pins 7, 8) at the PCB."

## CTE3216-18_4.7UF_10V_10%_AVX_TPSA475K010T1400
designator C?, comment 4.7uF
Polarised capacitor; Part Number: CTE3216-18_4.7UF_10V_10%_AVX_TPSA475K010T1400; Part Description: Low ESR 1R4 Automotive Solid Tantalum Chip Capacitor; Manufacturer: AVX; Manufacturer Part Number: TPSA475K010T1400; Voltage: 10V; Tolerance: ±10%; Component Kind: Standard; Component Type: Standard; Footprint: CAPMP3216X180N; Pin Count: 2; Value: 4.7uF; Status: Preferred; Case: A; Mounted: Yes; Socket: No; SMD: Yes; Sense: No; ComponentHeight: 1.8mm; HelpURL: \\cern.ch\dfs\Applications\Altium\Datasheets\CTE-LESR_AVX_TPS-AUTO.pdf; Author: CERN DEM JLC; CreateDate: 23.01.2018; LatestRevisionDate: 23.01.2018
footprint CAPMP3216X180N
pins: 1, 2
text: +

## CTE3216-18_10UF_16V_20%_AVX_TCJ
designator C?, comment 10uF
Polarised capacitor; Part Number: CTE3216-18_10UF_16V_20%_AVX_TCJ; Part Description: ESR 0R200 Tantalum Solid Electrolytic Chip Capacitor with Conductive Polymer Electrode; Manufacturer: AVX; Manufacturer Part Number: TCJA106M016R0200; Voltage: 16V; Tolerance: ±20%; Component Kind: Standard; Component Type: Standard; Footprint: CAPMP3216X180N; Pin Count: 2; Value: 10uF; Status: Preferred; Case: A; Mounted: Yes; Socket: No; SMD: Yes; Sense: No; ComponentHeight: 1.8mm; HelpURL: \\cern.ch\dfs\Applications\Altium\Datasheets\CTE_AVX_TCJ.pdf; Author: CERN DEM JLC; CreateDate: 29.03.2012; LatestRevisionDate: 29.03.2012
footprint CAPMP3216X180N
pins: 1, 2
text: +

## DC/DC_CC6-1212DF-E
designator IC?, comment CC6-1212DF-E
CONV DC/DC 6W DUAL 12V +-12V PCB; Manufacturer: TDK-Lambda Americas Inc.; PressFit: No; Bonding: No; Part Number: CC6-1212DF-E; Component Kind: Standard; Component Type: Standard; Device: CC6-1212DF-E; Footprint: CC6-1212DF-E; PackageDescription: CC6 Series, Body 0.900 x 0.831 x 0.335, Regulated; Part Description: CONV DC/DC 6W DUAL 12V +-12V PCB; Manufacturer Part Number: CC6-1212DF-E; Pin Count: 7; Mounted: Yes; Socket: No; SMD: No; Sense: No; ComponentHeight: 10.45mm; Author: GK; CreateDate: 17.12.2016; LatestRevisionDate: 17.12.2016
footprint CC6-1212DF-E (Footprint not found)
pins: 1 +Vin (power), 2 RC (in), 3 -Vin (power), 4 -Vout (power), 5 COM (power), 6 TRM (power), 7 +Vout (power), 8 Shield (power)

## FIDUCIAL_TARGET_C100-200
designator FTG?, comment Use only in PCB  (value not drawn)  (no BOM)
Fiducial Target; Part Number: FIDUCIAL_TARGET_C100-200; Part Description: Round Fiducial Target, Top Layer, 1.0mm, Top Solder 2.0mm, Keepout =2.0mm; Mounted: No; Component Type: Standard (No BOM); Footprint: FIDUCIAL_TOP_C100-200; Pin Count: 1; Family: Fiducial; Socket: No; SMD: Yes; Sense: No; Status: None; ComponentHeight: 0mm; HelpURL: Undefined; Author: CERN DEM JLC; CreateDate: 09.02.2010; LatestRevisionDate: 04.04.2012; PackageDescription: Round Fiducial Target, Top Layer, 1.0mm, Top Solder 2.0mm, Keepout =2.0mm
footprint FIDUCIAL_TOP_C100-200

## FIDUCIAL_TARGET_S100-200
designator FTG?, comment Use only in PCB  (value not drawn)  (no BOM)
Fiducial Target; Part Number: FIDUCIAL_TARGET_S100-200; Part Description: Square Fiducial Target, Top Layer, 1.0mm, Top Solder 2.0mm, Keepout =2.0mm; Mounted: No; Component Type: Standard (No BOM); Footprint: FIDUCIAL_TOP_S100-200; Pin Count: 1; Family: Fiducial; Socket: No; SMD: Yes; Sense: No; Status: None; ComponentHeight: 0mm; HelpURL: Undefined; Author: CERN DEM JLC; CreateDate: 09.02.2010; LatestRevisionDate: 04.04.2012; PackageDescription: Square Fiducial Target, Top Layer, 1.0mm, Top Solder 2.0mm, Keepout =2.0mm
footprint FIDUCIAL_TOP_S100-200

## FIL_MURATA_BNX022-01L
designator FL?, comment 10A/50VDC
Block Type EMIFIL (LC Combined); Part Number: FIL_MURATA_BNX022-01L; Part Description: Block Type EMIFIL (LC Combined) SMD Type, BNX02* Series; Manufacturer: MURATA; Manufacturer Part Number: BNX022-01L; Resistance: 0.5R; Component Kind: Standard; Component Type: Standard; Footprint: FIL_MURATA_BNX02; Pin Count: 2; Value: 10A/50VDC; Status: None; Mounted: Yes; Socket: No; SMD: Yes; Sense: No; ComponentHeight: 3.3mm; HelpURL: \\cern.ch\dfs\Applications\Altium\Datasheets\FIL_MURATA_BNX022-01L.pdf; Author: CERN DEM JLC; CreateDate: 10.10.2012; LatestRevisionDate: 10.10.2012
footprint FIL_MURATA_BNX02
pins: 1 B, 2 CB, 3 PSG, 4 CG

## FIN1101K8X
designator IC?
LVDS Single Port High Speed Repeater; Manufacturer: FAIRCHILD SEMICONDUCTOR; PressFit: No; Bonding: No; Part Number: FIN1101K8X; Component Kind: Standard; Component Type: Standard; Device: FIN1101K8X; Footprint: SOP50P310X90-8N; PackageDescription: SOP, 0.50mm Pitch; 8 pin, 2.30mm W X 2.00mm L X 0.90mm H body, PC Medium Density; Part Description: LVDS Single Port High Speed Repeater; Manufacturer Part Number: FIN1101K8X; Pin Count: 8; Case: TSSOP8; Mounted: Yes; Socket: No; SMD: Yes; Sense: No; ComponentHeight: 0.8mm; Author: CERN DEM JLC; HelpURL: \\cern.ch\dfs\Applications\Altium\Datasheets\FIN1101K8X.pdf; CreateDate: 08.11.2016; LatestRevisionDate: 08.11.2016
footprint SOP50P310X90-8N
pins: 1 RIN- (in), 2 GND (power), 3 EN (in), 4 GND (power), 5 DOUT- (out), 6 DOUT+ (out), 7 VCC (power), 8 RIN+ (in)

## IND_6.5MH_50%_WURTH_WE-SL2-744229
designator L?, comment 2x6.5mH
Inductor Common Mode; Part Number: IND_6.5MH_50%_WURTH_WE-SL2-744229; Part Description: Common Mode SMD Line Filter (WE-SL2 Serie); Manufacturer: WURTH ELEKTRONIK; Manufacturer Part Number: 744229; Power: 400mA; Resistance: 0.95R; Tolerance: ±50%; Component Kind: Standard; Component Type: Standard; Footprint: IND_WURTH_WE-SL2; Pin Count: 4; Value: 2x6.5mH; Status: None; Mounted: Yes; Socket: No; SMD: Yes; Sense: No; ComponentHeight: 5.3mm; HelpURL: \\cern.ch\dfs\Applications\Altium\Datasheets\IND_WURTH_WE-SL2_744229.pdf; Author: CERN DEM JLC; CreateDate: 01.10.2012; LatestRevisionDate: 15.10.2012
footprint IND_WURTH_WE-SL2
pins: 1, 2, 3, 4

## IND_10UH_10%_MURATA-PS_8400
designator L?, comment 10uH
Inductor With Core; Part Number: IND_10UH_10%_MURATA-PS_8400; Part Description: Miniature Surface Mount Power Inductor (8400 Serie); Manufacturer: MURATA POWER SOLUTIONS; Manufacturer Part Number: 84103C; Power: 950mA; Resistance: 0.24R; Tolerance: ±10%; Component Kind: Standard; Component Type: Standard; Footprint: IND_MURATA-PS_8400; Pin Count: 2; Value: 10uH; Status: None; Mounted: Yes; Socket: No; SMD: Yes; Sense: No; ComponentHeight: 2.9mm; HelpURL: \\cern.ch\dfs\Applications\Altium\Datasheets\IND_MURATA-PS_8400.pdf; Author: CERN DEM JLC; CreateDate: 02.07.2012; LatestRevisionDate: 02.07.2012
footprint IND_MURATA-PS_8400
pins: 1, 2

## LED_KINGBRIGHT_KPH-1608CGCK
designator LD?, comment Green
LED Green 1C 2A; Manufacturer Part Number: KPH-1608CGCK; Part Number: LED_KINGBRIGHT_KPH-1608CGCK; Part Description: SMD Green LED, Case 1.6mmX0.8mm(0603), 0.65mm Thickness; Manufacturer: KINGBRIGHT; PressFit: No; Bonding: No; ComponentHeight: 0.65mm; HelpURL: \\cern.ch\dfs\Applications\Altium\Datasheets\LED_KINGBRIGHT_KPH-1608CGCK.pdf; Component Kind: Standard; Component Type: Standard; Color: Green; Footprint: LED_KINGBRIGHT_KPH-1608CGCK; PackageDescription: SMT Green LED, Case 0603, Body L 1.6 x W 0.8mm H 0.65mm; Pin Count: 2; Mounted: Yes; Socket: No; SMD: Yes; Sense: No; Author: CERN DEM JLC; CreateDate: 03.07.2017; LatestRevisionDate: 03.07.2017
footprint LED_KINGBRIGHT_KPH-1608CGCK
pins: 1 C, 2 A
1 alternate drawing of the same symbol

## LM75AIMM/NOPB
designator IC?
Digital Temperature Sensor and Thermal Watchdog with Two-Wire Interface; Part Description: -25° to +100°C ±2°C Digital Temperature Sensor and Thermal Watchdog with Two-Wire Interface; Manufacturer: TEXAS INSTRUMENTS; PressFit: No; Bonding: No; Part Number: LM75AIMM/NOPB; Component Kind: Standard; Component Type: Standard; Device: LM75AIMM/NOPB; Footprint: SOP65P490X109-8N; PackageDescription: SOP, 0.65mm pitch; 8 pin,3.00mm W X 3.00mm L X 1.09mm H bodyI, PC Medium Density; Manufacturer Part Number: LM75AIMM/NOPB; Pin Count: 8; Case: SSOP8; Mounted: Yes; Socket: No; SMD: Yes; Sense: No; ComponentHeight: 1.09mm; HelpURL: \\cern.ch\dfs\Applications\Altium\Datasheets\LM75AIMM-NOPB.pdf; Author: CERN DEM JLC; CreateDate: 15.10.2012; LatestRevisionDate: 15.10.2012
footprint SOP65P490X109-8N
pins: 1 SDA (io), 2 SCL (in), 3 O.S. (out), 4 GND (power), 5 A2 (in), 6 A1 (in), 7 A0 (in), 8 +VS (power)
text: °C

## LM393AD
designator IC?
Dual Operational Amplifier; Part Description: Dual Differential Comparator; Manufacturer: TEXAS INSTRUMENTS; PressFit: No; Bonding: No; Part Number: LM393AD; Component Kind: Standard; Component Type: Standard; Device: LM393AD; Footprint: SOIC127P600X175-8N; PackageDescription: SOIC 8, Pitch 1.27mm - Body 4x5mm, IPC Medium Density; Manufacturer Part Number: LM393AD; Pin Count: 8; Case: SOIC8; Mounted: Yes; Socket: No; SMD: Yes; Sense: No; ComponentHeight: 1.75mm; Author: CERN DEM JLC; HelpURL: \\cern.ch\dfs\Applications\Altium\Datasheets\LM393AD.pdf; CreateDate: 22.10.2013; LatestRevisionDate: 22.10.2013
footprint SOIC127P600X175-8N
pins on every part: 4 V- (power), 8 V+ (power)
part A pins: 1 OUT (out), 2 IN- (in), 3 IN+ (in)
part B pins: 5 IN+ (in), 6 IN- (in), 7 OUT (out)
1 alternate drawing of the same symbol

## LT1761ES5-BYP#TRMPBF
designator IC?
100mA, Low Noise, LDO Micropower Adjustable Regulator in SOT-23; Part Description: 1.22V to 20V, 100mA, Low Noise, LDO Adjustable Micropower Regulator; Manufacturer: LINEAR TECHNOLOGY; PressFit: No; Bonding: No; Part Number: LT1761ES5-BYP#TRMPBF; Component Kind: Standard; Component Type: Standard; Device: LT1761ES5-BYP#TRMPBF; Footprint: SOT95P280X100-5N; PackageDescription: SOT23, 0.95mm pitch; 5 pin, 1.6mm W X 2.9mm L, IPC Medium Density; Manufacturer Part Number: LT1761ES5-BYP#TRMPBF; Pin Count: 5; Case: SOT23; Mounted: Yes; Socket: No; SMD: Yes; Sense: No; ComponentHeight: 1mm; HelpURL: \\cern.ch\dfs\Applications\Altium\Datasheets\LT1761ES5-SD#TRMPBF.pdf; Author: CERN DEM MR; CreateDate: 17.02.2016; LatestRevisionDate: 17.02.2016
footprint SOT95P280X100-5N
pins: 1 IN (in), 2 GND (power), 3 BYP (in), 4 ADJ (in), 5 OUT (power)

## LT1761ES5-SD#TRMPBF
designator IC?
100mA, Low Noise, LDO Micropower Adjustable Regulator in SOT-23; Part Description: 1.22V to 20V, 100mA, Low Noise, LDO Adjustable Micropower Regulator; Manufacturer: LINEAR TECHNOLOGY; PressFit: No; Bonding: No; Part Number: LT1761ES5-SD#TRMPBF; Component Kind: Standard; Component Type: Standard; Device: LT1761ES5-SD#TRMPBF; Footprint: SOT95P280X100-5N; PackageDescription: SOT23, 0.95mm Pitch; 5 Pin, 1.60mm W X 2.90mm L X 1.00mm H body, IPC Medium Density; Manufacturer Part Number: LT1761ES5-SD#TRMPBF; Pin Count: 5; Case: SOT23-5; Mounted: Yes; Socket: No; SMD: Yes; Sense: No; ComponentHeight: 1mm; HelpURL: \\cern.ch\dfs\Applications\Altium\Datasheets\LT1761ES5-SD#TRMPBF.pdf; Author: CERN DEM JLC; CreateDate: 26.08.2013; LatestRevisionDate: 26.08.2013
footprint SOT95P280X100-5N
pins: 1 IN (in), 2 GND (power), 3 ~{SHDN} (in), 4 ADJ (in), 5 OUT (power)

## LT1763CS8#PBF
designator IC?
1.22V to 20V 500mA, Low Noise, LDO Adjustable Micropower Regulator; Manufacturer: LINEAR TECHNOLOGY; PressFit: No; Bonding: No; Part Number: LT1763CS8#PBF; Component Kind: Standard; Component Type: Standard; Device: LT1763CS8#PBF; Footprint: SOIC127P600X175-8N; PackageDescription: SOIC 8, Pitch 1.27mm, Body 4x5mm, IPC Medium Density; Part Description: 1.22V to 20V 500mA, Low Noise, LDO Adjustable Micropower Regulator; Manufacturer Part Number: LT1763CS8#PBF; Pin Count: 8; Case: SOIC8; Mounted: Yes; Socket: No; SMD: Yes; Sense: No; ComponentHeight: 1.75mm; HelpURL: \\cern.ch\dfs\Applications\Altium\Datasheets\LT1763CS8#PBF.pdf; Author: CERN DEM JLC; CreateDate: 11.01.2010; LatestRevisionDate: 11.01.2010
footprint SOIC127P600X175-8N
pins: 1 OUT (power), 2 ADJ (in), 3 GND (power), 4 BYP, 5 ~{SHDN} (in), 6 GND (power), 7 GND (power), 8 IN (in)

## LT1964ES5-SD#TRMPBF
designator IC?
200mA, Low Noise, Low Dropout Negative Micropower Regulator; Part Description: -1.22V to -20V, 200mA, Low Noise, Low Dropout Negative Micropower Regulator; Manufacturer: LINEAR TECHNOLOGY; PressFit: No; Bonding: No; Part Number: LT1964ES5-SD#TRMPBF; Component Kind: Standard; Component Type: Standard; Device: LT1964ES5-SD#TRMPBF; Footprint: SOT95P280X100-5N; PackageDescription: SOT23, 0.95mm pitch; 5 pin, 1.75mm W X 3.00mm L, IPC Medium Density; Manufacturer Part Number: LT1964ES5-SD#TRMPBF; Pin Count: 5; Case: SOT23-5; Mounted: Yes; Socket: No; SMD: Yes; Sense: No; ComponentHeight: 1mm; HelpURL: \\cern.ch\dfs\Applications\Altium\Datasheets\LT1964ES5-SD#TRMPBF.pdf; Author: CERN DEM JLC; CreateDate: 05.05.2009; LatestRevisionDate: 05.05.2009
footprint SOT95P280X100-5N
pins: 1 GND (power), 2 IN (in), 3 ~{SHDN} (in), 4 ADJ (in), 5 OUT (power)

## MIC5219-3.3YM5
designator IC?
500mA Peak Output LDO Regulator; Part Description: 3.3V 500mA Peak Output Low Drop-Out  (LDO) Regulator; Manufacturer: MICROCHIP TECHNOLOGY; PressFit: No; Bonding: No; Part Number: MIC5219-3.3YM5; Component Kind: Standard; Component Type: Standard; Device: MIC5219-3.3YM5; Footprint: SOT95P280X145-5N; PackageDescription: SOT, 0.95mm pitch; 5 pin, 1.60mm W X 2.90mm L X 1.45mm H body, IPC Medium Density; Manufacturer Part Number: MIC5219-3.3YM5; Pin Count: 5; Case: SOT23-5; Mounted: Yes; Socket: No; SMD: Yes; Sense: No; ComponentHeight: 1.45mm; HelpURL: \\cern.ch\dfs\Applications\Altium\Datasheets\MIC5219-3.3YM5.pdf; Author: CERN DEM WB; CreateDate: 2019-04-16; LatestRevisionDate: 2019-04-16
footprint SOT95P280X145-5N
pins: 1 IN (in), 2 GND (power), 3 EN (in), 4 BYP, 5 OUT (power)

## MOLEX_39-30-0040
designator J?, comment Mini-Fit Jr.™  (value not drawn)
Connector 4 Male; Part Number: MOLEX_39-30-0040; Part Description: 4.20mm (.165") Pitch Mini-Fit Jr. Header, Dual Row, Right Angle with Snap-in Plastic Peg PCB Lock, 4 Circuits; Manufacturer: MOLEX; PressFit: No; Component Kind: Standard; Component Type: Standard; Footprint: MOLEX_39-30-0040; Pin Count: 4; Family: Mini-Fit Jr.™; Mounted: Yes; Socket: No; SMD: No; Sense: No; Status: None; Manufacturer Part Number: 39-30-0040; ComponentHeight: 11.4mm; HelpURL: \\cern.ch\dfs\Applications\Altium\Datasheets\MOLEX_39-30-0040.pdf; Author: CERN DEM JLC; CreateDate: 2018-10-02; LatestRevisionDate: 2018-10-02
footprint MOLEX_39-30-0040
pins: 1 (io), 2 (io), 3 (io), 4 (io)
1 alternate drawing of the same symbol

## MOLEX_73251-3150
designator J?, comment BNC
Part Number: MOLEX_73251-3150; Part Description: RF Connectors / Coaxial Connectors BNC RA PCB RECPT 50 OHM; Manufacturer: MOLEX; Manufacturer Part Number: 73251-3150; PressFit: No; Component Kind: Standard; Component Type: Standard; Footprint: MOLEX_73251-3150; Pin Count: 5; Family: BNC; Mounted: Yes; Socket: No; SMD: No; Sense: No; Status: None; HelpURL: \\cern.ch\dfs\Applications\Altium\Datasheets\MOLEX_73251-2121.pdf; Author: CERN DEM JLC; CreateDate: 19.09.2024; LatestRevisionDate: 19.09.2024
footprint MOLEX_73251-3150
pins: 1 (io), 2 (io)

## OA_OPA2197IDGKR
designator IC?, comment OPA2197IDGKR
36-V, Precision, Rail-to-Rail Input Output, Low Offset Voltage Op Amp 8-VSSOP; Part Description: High-Precision, Low-Noise, Rail-to-Rail Output,10-MHz Op Amp; Manufacturer: TEXAS INSTRUMENTS; PressFit: No; Bonding: No; Part Number: OPA2197IDGKR; Component Kind: Standard; Component Type: Standard; Device: OPA2197IDGKR; Footprint: SOP65P490X110-8N; PackageDescription: SOP, 0.65mm pitch; 8 pin, 3.00mm W X 3.00mm L X 1.10mm H body, IPC Medium Density; Manufacturer Part Number: OPA2197IDGKR; Pin Count: 8; Case: MSOP8; Mounted: Yes; Socket: No; SMD: Yes; Sense: No; ComponentHeight: 1.1mm; Author: GK; HelpURL: \\cern.ch\dfs\Applications\Altium\Datasheets\OPA2140AIDGK.pdf; CreateDate: 20.04.2017; LatestRevisionDate: 20.04.2017
footprint SOP65P490X110-8N
pins on every part: 4 V- (power), 8 V+ (power)
part A pins: 1 OUT (out), 2 IN- (in), 3 IN+ (in)
part B pins: 5 IN+ (in), 6 IN- (in), 7 OUT (out)
1 alternate drawing of the same symbol